# Altium schematic symbol library RLY-SPST.SchLib: 1 symbol
Pins are listed as number, name and electrical type; pins without a type are passive.

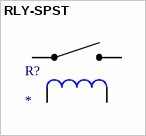
[diagram p0: symbol RLY-SPST]

## RLY-SPST
designator R?
pins: 1, 2, 3, 4